# Altium footprint library BIOSENSE_PCB.PcbLib: 36 footprints (part 3 of 3)
Each footprint in its own frame and in the unit in brackets; x right, y up, seen from the top. Pads: shape width x height; smd on the part's side, far side on the other; paste and mask are expansions set on the pad; w line width, h text height; cw(c..) or ccw(c..) is an arc to the next point about the centre after c.
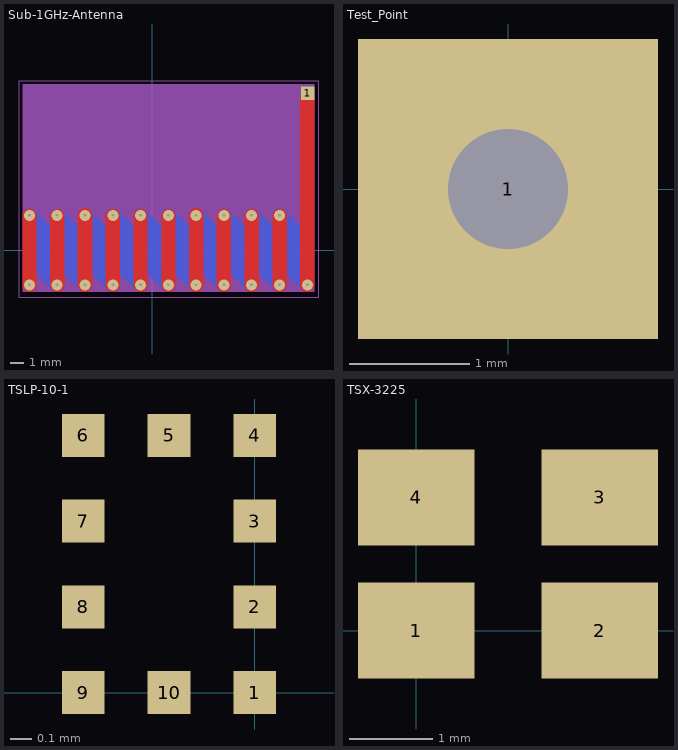
[diagram p2: the footprints below, top view; thin cyan lines are the x and y axes]

## Sub-1GHz-Antenna [mil]
pads (1):
  rect 39x39 smd: 1(440,445)
via 281,99 diameter 31 hole 8
via 360,-98 diameter 31 hole 8
via 281,-98 diameter 31 hole 8
via 203,99 diameter 31 hole 8
via 203,-98 diameter 31 hole 8
via 124,99 diameter 31 hole 8
via 124,-98 diameter 31 hole 8
via 45,99 diameter 31 hole 8
via 45,-98 diameter 31 hole 8
via -34,99 diameter 31 hole 8
via -34,-98 diameter 31 hole 8
via -112,99 diameter 31 hole 8
via -112,-98 diameter 31 hole 8
via -191,99 diameter 31 hole 8
via -191,-98 diameter 31 hole 8
via -270,99 diameter 31 hole 8
via -348,-98 diameter 31 hole 8
via -348,99 diameter 31 hole 8
via -270,-98 diameter 31 hole 8
via 439,-98 diameter 31 hole 8
via 360,99 diameter 31 hole 8
Top Layer:
  region: 341,99 341,-98 341.07,-99.7 341.29,-101.39 341.66,-103.05 342.17,-104.67 342.82,-106.24 343.6,-107.75 344.52,-109.19 345.55,-110.54 346.7,-111.79 347.95,-112.94 349.3,-113.98 350.73,-114.9 352.24,-115.68 353.81,-116.34 355.44,-116.85 357.1,-117.22 358.78,-117.44 360.48,-117.52 362.18,-117.45 363.87,-117.23 365.53,-116.86 367.15,-116.35 368.72,-115.7 370.23,-114.92 371.67,-114 373.02,-112.97 374.28,-111.82 375.43,-110.57 376.46,-109.22 377.38,-107.78 378.17,-106.28 378.82,-104.71 379.33,-103.08 379.7,-101.42 379.92,-99.74 380,-98.04 380,-98 380,99 379.79,100.69 379.43,102.36 378.93,103.99 378.29,105.58 377.51,107.09 376.61,108.54 375.58,109.9 374.43,111.17 373.18,112.33 371.84,113.38 370.4,114.31 368.9,115.11 367.32,115.77 365.7,116.3 364.04,116.68 362.35,116.91 360.64,117 358.94,116.94 357.24,116.73 355.58,116.37 353.94,115.87 352.36,115.23 350.84,114.45 349.4,113.54 348.04,112.51 346.77,111.37 345.61,110.12 344.56,108.78 343.63,107.34 342.83,105.83 342.17,104.26 341.64,102.64 341.26,100.98 341.02,99.29
  region: 262,99 262,-98 262.07,-99.7 262.29,-101.39 262.66,-103.05 263.17,-104.67 263.82,-106.24 264.6,-107.75 265.52,-109.19 266.55,-110.54 267.7,-111.79 268.95,-112.94 270.3,-113.98 271.73,-114.9 273.24,-115.68 274.81,-116.34 276.44,-116.85 278.1,-117.22 279.78,-117.44 281.48,-117.52 283.18,-117.45 284.87,-117.23 286.53,-116.86 288.15,-116.35 289.72,-115.7 291.23,-114.92 292.67,-114 294.02,-112.97 295.28,-111.82 296.43,-110.57 297.46,-109.22 298.38,-107.78 299.17,-106.28 299.82,-104.71 300.33,-103.08 300.7,-101.42 300.92,-99.74 301,-98.04 301,-98 301,99 300.79,100.69 300.43,102.36 299.93,103.99 299.29,105.58 298.51,107.09 297.61,108.54 296.58,109.9 295.43,111.17 294.18,112.33 292.84,113.38 291.4,114.31 289.9,115.11 288.32,115.77 286.7,116.3 285.04,116.68 283.35,116.91 281.64,117 279.94,116.94 278.24,116.73 276.58,116.37 274.94,115.87 273.36,115.23 271.84,114.45 270.4,113.54 269.04,112.51 267.77,111.37 266.61,110.12 265.56,108.78 264.63,107.34 263.83,105.83 263.17,104.26 262.64,102.64 262.26,100.98 262.02,99.29
  region: 183,99 183,-98 183.07,-99.7 183.29,-101.39 183.66,-103.05 184.17,-104.67 184.82,-106.24 185.6,-107.75 186.51,-109.19 187.55,-110.54 188.7,-111.8 189.95,-112.95 191.3,-113.98 192.73,-114.9 194.24,-115.69 195.81,-116.34 197.43,-116.85 199.09,-117.22 200.78,-117.45 202.48,-117.52 204.18,-117.45 205.86,-117.23 207.53,-116.86 209.15,-116.35 210.72,-115.7 212.23,-114.92 213.67,-114.01 215.02,-112.97 216.27,-111.83 217.42,-110.57 218.46,-109.23 219.38,-107.79 220.16,-106.28 220.82,-104.71 221.33,-103.09 221.7,-101.43 221.92,-99.74 222,-98.04 222,-98 222,99 221.79,100.69 221.43,102.36 220.93,103.99 220.29,105.58 219.51,107.09 218.61,108.54 217.58,109.9 216.43,111.17 215.18,112.33 213.84,113.38 212.4,114.31 210.9,115.11 209.32,115.77 207.7,116.3 206.04,116.68 204.35,116.91 202.64,117 200.94,116.94 199.24,116.73 197.57,116.37 195.94,115.87 194.36,115.23 192.84,114.45 191.4,113.54 190.04,112.51 188.77,111.37 187.61,110.12 186.56,108.77 185.63,107.34 184.83,105.83 184.17,104.26 183.64,102.64 183.26,100.97 183.02,99.28
  region: 104,99 104,-98 104.08,-99.74 104.3,-101.47 104.68,-103.18 105.21,-104.84 105.87,-106.45 106.68,-108 107.62,-109.47 108.68,-110.86 109.86,-112.14 111.14,-113.32 112.53,-114.38 114,-115.32 115.55,-116.13 117.16,-116.79 118.82,-117.32 120.53,-117.7 122.26,-117.92 124,-118 125.74,-117.92 127.47,-117.7 129.18,-117.32 130.84,-116.79 132.45,-116.13 134,-115.32 135.47,-114.38 136.86,-113.32 138.14,-112.14 139.32,-110.86 140.38,-109.47 141.32,-108 142.13,-106.45 142.79,-104.84 143.32,-103.18 143.7,-101.47 143.92,-99.74 144,-98 144,99 143.92,100.74 143.7,102.47 143.32,104.18 142.79,105.84 142.13,107.45 141.32,109 140.38,110.47 139.32,111.86 138.14,113.14 136.86,114.32 135.47,115.38 134,116.32 132.45,117.13 130.84,117.79 129.18,118.32 127.47,118.7 125.74,118.92 124,119 122.26,118.92 120.53,118.7 118.82,118.32 117.16,117.79 115.55,117.13 114,116.32 112.53,115.38 111.14,114.32 109.86,113.14 108.68,111.86 107.62,110.47 106.68,109 105.87,107.45 105.21,105.84 104.68,104.18 104.3,102.47 104.08,100.74
  region: 26,99 26,-98 26.07,-99.7 26.29,-101.39 26.66,-103.05 27.17,-104.67 27.82,-106.24 28.6,-107.75 29.51,-109.19 30.55,-110.54 31.7,-111.8 32.95,-112.95 34.3,-113.98 35.73,-114.9 37.24,-115.69 38.81,-116.34 40.43,-116.85 42.09,-117.22 43.78,-117.45 45.48,-117.52 47.18,-117.45 48.86,-117.23 50.53,-116.86 52.15,-116.35 53.72,-115.7 55.23,-114.92 56.67,-114.01 58.02,-112.97 59.27,-111.83 60.42,-110.57 61.46,-109.23 62.38,-107.79 63.16,-106.28 63.82,-104.71 64.33,-103.09 64.7,-101.43 64.92,-99.74 65,-98.04 65,-98 65,99 64.79,100.69 64.43,102.36 63.93,103.99 63.29,105.58 62.51,107.09 61.61,108.54 60.58,109.9 59.43,111.17 58.18,112.33 56.84,113.38 55.4,114.31 53.9,115.11 52.32,115.77 50.7,116.3 49.04,116.68 47.35,116.91 45.64,117 43.94,116.94 42.24,116.73 40.58,116.37 38.94,115.87 37.36,115.23 35.84,114.45 34.4,113.54 33.04,112.51 31.77,111.37 30.61,110.12 29.56,108.77 28.63,107.34 27.83,105.83 27.17,104.26 26.64,102.64 26.26,100.97 26.02,99.28
  region: -53,99 -53,-98 -52.93,-99.7 -52.71,-101.39 -52.34,-103.05 -51.83,-104.67 -51.18,-106.24 -50.4,-107.75 -49.49,-109.19 -48.45,-110.54 -47.3,-111.8 -46.05,-112.95 -44.7,-113.98 -43.27,-114.9 -41.76,-115.69 -40.19,-116.34 -38.57,-116.85 -36.91,-117.22 -35.22,-117.45 -33.52,-117.52 -31.82,-117.45 -30.14,-117.23 -28.47,-116.86 -26.85,-116.35 -25.28,-115.7 -23.77,-114.92 -22.33,-114.01 -20.98,-112.97 -19.73,-111.83 -18.58,-110.57 -17.54,-109.23 -16.62,-107.79 -15.84,-106.28 -15.18,-104.71 -14.67,-103.09 -14.3,-101.43 -14.08,-99.74 -14,-98.04 -14,-98 -14,99 -14.21,100.69 -14.57,102.36 -15.07,103.99 -15.71,105.58 -16.49,107.09 -17.39,108.54 -18.42,109.9 -19.57,111.17 -20.82,112.33 -22.16,113.38 -23.6,114.31 -25.1,115.11 -26.68,115.77 -28.3,116.3 -29.96,116.68 -31.65,116.91 -33.36,117 -35.06,116.94 -36.76,116.73 -38.42,116.37 -40.06,115.87 -41.64,115.23 -43.16,114.45 -44.6,113.54 -45.96,112.51 -47.23,111.37 -48.39,110.12 -49.44,108.77 -50.37,107.34 -51.17,105.83 -51.83,104.26 -52.36,102.64 -52.74,100.97 -52.98,99.28
  region: -132,99 -132,-98 -131.93,-99.7 -131.71,-101.39 -131.34,-103.05 -130.83,-104.67 -130.18,-106.24 -129.4,-107.75 -128.49,-109.19 -127.45,-110.54 -126.3,-111.8 -125.05,-112.95 -123.7,-113.98 -122.27,-114.9 -120.76,-115.69 -119.19,-116.34 -117.57,-116.85 -115.91,-117.22 -114.22,-117.45 -112.52,-117.52 -110.82,-117.45 -109.14,-117.23 -107.47,-116.86 -105.85,-116.35 -104.28,-115.7 -102.77,-114.92 -101.33,-114.01 -99.98,-112.97 -98.73,-111.83 -97.58,-110.57 -96.54,-109.23 -95.62,-107.79 -94.84,-106.28 -94.18,-104.71 -93.67,-103.09 -93.3,-101.43 -93.08,-99.74 -93,-98.04 -93,-98 -93,99 -93.21,100.69 -93.57,102.36 -94.07,103.99 -94.71,105.58 -95.49,107.09 -96.39,108.54 -97.42,109.9 -98.57,111.17 -99.82,112.33 -101.16,113.38 -102.6,114.31 -104.1,115.11 -105.68,115.77 -107.3,116.3 -108.96,116.68 -110.65,116.91 -112.36,117 -114.06,116.94 -115.76,116.73 -117.42,116.37 -119.06,115.87 -120.64,115.23 -122.16,114.45 -123.6,113.54 -124.96,112.51 -126.23,111.37 -127.39,110.12 -128.44,108.77 -129.37,107.34 -130.17,105.83 -130.83,104.26 -131.36,102.64 -131.74,100.97 -131.98,99.28
  region: -289,99 -289,-98 -288.93,-99.7 -288.71,-101.39 -288.34,-103.05 -287.83,-104.67 -287.18,-106.24 -286.4,-107.75 -285.49,-109.19 -284.45,-110.54 -283.3,-111.8 -282.05,-112.95 -280.7,-113.98 -279.27,-114.9 -277.76,-115.69 -276.19,-116.34 -274.57,-116.85 -272.91,-117.22 -271.22,-117.45 -269.52,-117.52 -267.82,-117.45 -266.14,-117.23 -264.47,-116.86 -262.85,-116.35 -261.28,-115.7 -259.77,-114.92 -258.33,-114.01 -256.98,-112.97 -255.73,-111.83 -254.58,-110.57 -253.54,-109.23 -252.62,-107.79 -251.84,-106.28 -251.18,-104.71 -250.67,-103.09 -250.3,-101.43 -250.08,-99.74 -250,-98.04 -250,-98 -250,99 -250.21,100.69 -250.57,102.36 -251.07,103.99 -251.71,105.58 -252.49,107.09 -253.39,108.54 -254.42,109.9 -255.57,111.17 -256.82,112.33 -258.16,113.38 -259.6,114.31 -261.1,115.11 -262.68,115.77 -264.3,116.3 -265.96,116.68 -267.65,116.91 -269.36,117 -271.06,116.94 -272.76,116.73 -274.43,116.37 -276.06,115.87 -277.64,115.23 -279.16,114.45 -280.6,113.54 -281.96,112.51 -283.23,111.37 -284.39,110.12 -285.44,108.77 -286.37,107.34 -287.17,105.83 -287.83,104.26 -288.36,102.64 -288.74,100.97 -288.98,99.28
  region: -211,99 -211,-98 -210.92,-99.74 -210.7,-101.47 -210.32,-103.18 -209.79,-104.84 -209.13,-106.45 -208.32,-108 -207.38,-109.47 -206.32,-110.86 -205.14,-112.14 -203.86,-113.32 -202.47,-114.38 -201,-115.32 -199.45,-116.13 -197.84,-116.79 -196.18,-117.32 -194.47,-117.7 -192.74,-117.92 -191,-118 -189.26,-117.92 -187.53,-117.7 -185.82,-117.32 -184.16,-116.79 -182.55,-116.13 -181,-115.32 -179.53,-114.38 -178.14,-113.32 -176.86,-112.14 -175.68,-110.86 -174.62,-109.47 -173.68,-108 -172.87,-106.45 -172.21,-104.84 -171.68,-103.18 -171.3,-101.47 -171.08,-99.74 -171,-98 -171,99 -171.08,100.74 -171.3,102.47 -171.68,104.18 -172.21,105.84 -172.87,107.45 -173.68,109 -174.62,110.47 -175.68,111.86 -176.86,113.14 -178.14,114.32 -179.53,115.38 -181,116.32 -182.55,117.13 -184.16,117.79 -185.82,118.32 -187.53,118.7 -189.26,118.92 -191,119 -192.74,118.92 -194.47,118.7 -196.18,118.32 -197.84,117.79 -199.45,117.13 -201,116.32 -202.47,115.38 -203.86,114.32 -205.14,113.14 -206.32,111.86 -207.38,110.47 -208.32,109 -209.13,107.45 -209.79,105.84 -210.32,104.18 -210.7,102.47 -210.92,100.74
  region: -368,99 -368,-98 -367.93,-99.7 -367.71,-101.39 -367.34,-103.05 -366.83,-104.67 -366.18,-106.24 -365.4,-107.75 -364.49,-109.19 -363.45,-110.54 -362.3,-111.8 -361.05,-112.95 -359.7,-113.98 -358.27,-114.9 -356.76,-115.69 -355.19,-116.34 -353.57,-116.85 -351.91,-117.22 -350.22,-117.45 -348.52,-117.52 -346.82,-117.45 -345.14,-117.23 -343.47,-116.86 -341.85,-116.35 -340.28,-115.7 -338.77,-114.92 -337.33,-114.01 -335.98,-112.97 -334.73,-111.83 -333.58,-110.57 -332.54,-109.23 -331.62,-107.79 -330.84,-106.28 -330.18,-104.71 -329.67,-103.09 -329.3,-101.43 -329.08,-99.74 -329,-98.04 -329,-98 -329,99 -329.21,100.69 -329.57,102.36 -330.07,103.99 -330.71,105.58 -331.49,107.09 -332.39,108.54 -333.42,109.9 -334.57,111.17 -335.82,112.33 -337.16,113.38 -338.6,114.31 -340.1,115.11 -341.68,115.77 -343.3,116.3 -344.96,116.68 -346.65,116.91 -348.36,117 -350.06,116.94 -351.76,116.73 -353.43,116.37 -355.06,115.87 -356.64,115.23 -358.16,114.45 -359.6,113.54 -360.96,112.51 -362.23,111.37 -363.39,110.12 -364.44,108.77 -365.37,107.34 -366.17,105.83 -366.83,104.26 -367.36,102.64 -367.74,100.97 -367.98,99.28
  region: 459,-98 459,430 440.74,430 419,430 419,-98 419.08,-99.74 419.3,-101.47 419.68,-103.18 420.21,-104.84 420.87,-106.45 421.68,-108 422.62,-109.47 423.68,-110.86 424.86,-112.14 426.14,-113.32 427.53,-114.38 429,-115.32 430.55,-116.13 432.16,-116.79 433.82,-117.32 435.53,-117.7 437.26,-117.92 439,-118 440.74,-117.92 442.47,-117.7 444.18,-117.32 445.84,-116.79 447.45,-116.13 449,-115.32 450.47,-114.38 451.86,-113.32 453.14,-112.14 454.32,-110.86 455.38,-109.47 456.32,-108 457.13,-106.45 457.79,-104.84 458.32,-103.18 458.7,-101.47 458.92,-99.74
Bottom Layer:
  region: 374,-84 375.17,-85.27 376.22,-86.64 377.15,-88.1 377.94,-89.63 378.61,-91.23 379.12,-92.88 379.5,-94.56 379.72,-96.27 379.8,-98 379.72,-99.73 379.5,-101.44 379.12,-103.12 378.61,-104.77 377.94,-106.37 377.15,-107.9 376.22,-109.36 375.17,-110.73 374,-112 372.73,-113.17 371.36,-114.22 369.9,-115.15 368.37,-115.94 366.77,-116.61 365.12,-117.12 363.44,-117.5 361.73,-117.72 360,-117.8 358.27,-117.72 356.56,-117.5 354.88,-117.12 353.23,-116.61 351.63,-115.94 350.1,-115.15 348.64,-114.22 347.27,-113.17 346,-112 306,-72 304.91,-70.68 303.95,-69.26 303.1,-67.77 302.4,-66.21 301.83,-64.6 301.4,-62.94 301.12,-61.25 300.99,-59.54 301,-58 301,52 268,85 266.84,86.24 265.79,87.57 264.86,88.99 264.06,90.49 263.4,92.05 262.87,93.66 262.48,95.31 262.24,96.99 262.15,98.69 262.21,100.38 262.41,102.07 262.76,103.73 263.25,105.35 263.88,106.93 264.65,108.44 265.54,109.88 266.56,111.24 267.69,112.5 268.93,113.66 270.27,114.71 271.69,115.64 273.18,116.44 274.74,117.11 276.35,117.63 278.01,118.02 279.69,118.26 281.38,118.35 283.08,118.3 284.76,118.1 286.42,117.75 288.05,117.25 289.62,116.62 291.13,115.86 292.57,114.96 293.93,113.94 295,113 334,74 335.18,72.75 336.25,71.41 337.19,69.98 338.01,68.47 338.7,66.9 339.24,65.27 339.64,63.6 339.89,61.91 340,60.19 340,60 340,-50
  region: 295,-84 296.17,-85.23 297.23,-86.56 298.16,-87.97 298.98,-89.46 299.65,-91.02 300.19,-92.62 300.59,-94.27 300.84,-95.95 300.95,-97.64 300.91,-99.34 300.72,-101.03 300.38,-102.69 299.9,-104.32 299.28,-105.9 298.52,-107.42 297.64,-108.86 296.63,-110.23 295.51,-111.5 294.28,-112.67 292.95,-113.73 291.54,-114.66 290.05,-115.48 288.49,-116.15 286.88,-116.69 285.23,-117.09 283.56,-117.34 281.86,-117.45 280.17,-117.41 278.48,-117.22 276.82,-116.88 275.19,-116.4 273.61,-115.78 272.09,-115.02 270.64,-114.14 269.28,-113.13 268.01,-112.01 268,-112 228,-72 226.82,-70.76 225.76,-69.43 224.81,-68.01 224,-66.51 223.31,-64.95 222.77,-63.33 222.37,-61.67 222.11,-59.98 222,-58.28 222,-58 222,52 189,85 187.83,86.27 186.78,87.64 185.85,89.1 185.06,90.63 184.4,92.23 183.88,93.88 183.5,95.56 183.28,97.27 183.2,99 183.28,100.73 183.5,102.44 183.88,104.12 184.4,105.77 185.06,107.37 185.85,108.9 186.78,110.36 187.83,111.73 189,113 190.27,114.17 191.64,115.22 193.1,116.15 194.63,116.94 196.23,117.61 197.88,118.12 199.56,118.5 201.27,118.72 203,118.8 204.73,118.72 206.44,118.5 208.12,118.12 209.77,117.61 211.37,116.94 212.9,116.15 214.36,115.22 215.73,114.17 217,113 256,74 257.09,72.67 258.06,71.25 258.9,69.74 259.61,68.17 260.18,66.55 260.6,64.88 260.88,63.18 261.01,61.47 261,60 261,-50
  region: 217,-84 218.17,-85.27 219.22,-86.64 220.15,-88.1 220.94,-89.63 221.6,-91.23 222.12,-92.88 222.5,-94.56 222.72,-96.27 222.8,-98 222.72,-99.73 222.5,-101.44 222.12,-103.12 221.6,-104.77 220.94,-106.37 220.15,-107.9 219.22,-109.36 218.17,-110.73 217,-112 215.73,-113.17 214.36,-114.22 212.9,-115.15 211.37,-115.94 209.77,-116.61 208.12,-117.12 206.44,-117.5 204.73,-117.72 203,-117.8 201.27,-117.72 199.56,-117.5 197.88,-117.12 196.23,-116.61 194.63,-115.94 193.1,-115.15 191.64,-114.22 190.27,-113.17 189,-112 149,-72 147.82,-70.75 146.75,-69.41 145.8,-67.98 144.99,-66.47 144.3,-64.89 143.76,-63.26 143.36,-61.59 143.11,-59.9 143,-58.18 143,-58 143,52 110,85 108.83,86.27 107.78,87.64 106.85,89.1 106.06,90.63 105.39,92.23 104.88,93.88 104.5,95.56 104.28,97.27 104.2,99 104.28,100.73 104.5,102.44 104.88,104.12 105.39,105.77 106.06,107.37 106.85,108.9 107.78,110.36 108.83,111.73 110,113 111.27,114.17 112.64,115.22 114.1,116.15 115.63,116.94 117.23,117.61 118.88,118.12 120.56,118.5 122.27,118.72 124,118.8 125.73,118.72 127.44,118.5 129.12,118.12 130.77,117.61 132.37,116.94 133.9,116.15 135.36,115.22 136.73,114.17 138,113 177,74 178.09,72.68 179.05,71.27 179.89,69.78 180.6,68.22 181.17,66.6 181.6,64.94 181.88,63.26 182.01,61.55 182,60 182,-50
  region: 138,-84 139.17,-85.27 140.22,-86.64 141.15,-88.1 141.94,-89.63 142.6,-91.23 143.12,-92.88 143.5,-94.56 143.72,-96.27 143.8,-98 143.72,-99.73 143.5,-101.44 143.12,-103.12 142.6,-104.77 141.94,-106.37 141.15,-107.9 140.22,-109.36 139.17,-110.73 138,-112 136.73,-113.17 135.36,-114.22 133.9,-115.15 132.37,-115.94 130.77,-116.61 129.12,-117.12 127.44,-117.5 125.73,-117.72 124,-117.8 122.27,-117.72 120.56,-117.5 118.88,-117.12 117.23,-116.61 115.63,-115.94 114.1,-115.15 112.64,-114.22 111.27,-113.17 110,-112 70,-72 68.81,-70.74 67.74,-69.38 66.79,-67.93 65.97,-66.41 65.29,-64.81 64.74,-63.17 64.35,-61.48 64.1,-59.77 64,-58.04 64,-58 64,52 31,85 29.83,86.27 28.78,87.64 27.85,89.1 27.06,90.63 26.39,92.23 25.88,93.88 25.5,95.56 25.28,97.27 25.2,99 25.28,100.73 25.5,102.44 25.88,104.12 26.39,105.77 27.06,107.37 27.85,108.9 28.78,110.36 29.83,111.73 31,113 32.27,114.17 33.64,115.22 35.1,116.15 36.63,116.94 38.23,117.61 39.88,118.12 41.56,118.5 43.27,118.72 45,118.8 46.73,118.72 48.44,118.5 50.12,118.12 51.77,117.61 53.37,116.94 54.9,116.15 56.36,115.22 57.73,114.17 59,113 98,74 99.18,72.74 100.25,71.39 101.2,69.95 102.02,68.43 102.71,66.85 103.25,65.21 103.65,63.53 103.9,61.82 104,60.1 104,60 104,-50
  region: 59,-84 60.17,-85.27 61.22,-86.64 62.15,-88.1 62.94,-89.63 63.6,-91.23 64.12,-92.88 64.5,-94.56 64.72,-96.27 64.8,-98 64.72,-99.73 64.5,-101.44 64.12,-103.12 63.6,-104.77 62.94,-106.37 62.15,-107.9 61.22,-109.36 60.17,-110.73 59,-112 57.73,-113.17 56.36,-114.22 54.9,-115.15 53.37,-115.94 51.77,-116.61 50.12,-117.12 48.44,-117.5 46.73,-117.72 45,-117.8 43.27,-117.72 41.56,-117.5 39.88,-117.12 38.23,-116.61 36.63,-115.94 35.1,-115.15 33.64,-114.22 32.27,-113.17 31,-112 -9,-72 -10.09,-70.67 -11.06,-69.25 -11.9,-67.76 -12.61,-66.19 -13.18,-64.57 -13.6,-62.91 -13.88,-61.21 -14.01,-59.5 -14,-58 -14,52 -47,85 -48.17,86.27 -49.22,87.64 -50.15,89.1 -50.94,90.63 -51.6,92.23 -52.12,93.88 -52.5,95.56 -52.72,97.27 -52.8,99 -52.72,100.73 -52.5,102.44 -52.12,104.12 -51.6,105.77 -50.94,107.37 -50.15,108.9 -49.22,110.36 -48.17,111.73 -47,113 -45.73,114.17 -44.36,115.22 -42.9,116.15 -41.37,116.94 -39.77,117.61 -38.12,118.12 -36.44,118.5 -34.73,118.72 -33,118.8 -31.27,118.72 -29.56,118.5 -27.88,118.12 -26.23,117.61 -24.63,116.94 -23.1,116.15 -21.64,115.22 -20.27,114.17 -19,113 19,74 20.18,72.76 21.25,71.42 22.19,70 23.01,68.49 23.69,66.92 24.24,65.3 24.64,63.64 24.89,61.95 25,60.24 25,60 25,-50
  region: -20,-84 -18.83,-85.23 -17.77,-86.56 -16.84,-87.97 -16.02,-89.46 -15.35,-91.02 -14.81,-92.62 -14.41,-94.27 -14.16,-95.95 -14.05,-97.64 -14.09,-99.34 -14.28,-101.03 -14.62,-102.69 -15.1,-104.32 -15.72,-105.9 -16.48,-107.42 -17.36,-108.86 -18.37,-110.23 -19.49,-111.5 -20.72,-112.67 -22.05,-113.73 -23.46,-114.66 -24.95,-115.48 -26.51,-116.15 -28.12,-116.69 -29.77,-117.09 -31.44,-117.34 -33.14,-117.45 -34.83,-117.41 -36.52,-117.22 -38.18,-116.88 -39.81,-116.4 -41.39,-115.78 -42.91,-115.02 -44.36,-114.14 -45.72,-113.13 -46.99,-112.01 -47,-112 -87,-72 -88.18,-70.76 -89.24,-69.43 -90.19,-68.01 -91,-66.51 -91.69,-64.95 -92.23,-63.33 -92.63,-61.67 -92.89,-59.98 -93,-58.28 -93,-58 -93,52 -126,85 -127.17,86.27 -128.22,87.64 -129.15,89.1 -129.94,90.63 -130.6,92.23 -131.12,93.88 -131.5,95.56 -131.72,97.27 -131.8,99 -131.72,100.73 -131.5,102.44 -131.12,104.12 -130.6,105.77 -129.94,107.37 -129.15,108.9 -128.22,110.36 -127.17,111.73 -126,113 -124.73,114.17 -123.36,115.22 -121.9,116.15 -120.37,116.94 -118.77,117.61 -117.12,118.12 -115.44,118.5 -113.73,118.72 -112,118.8 -110.27,118.72 -108.56,118.5 -106.88,118.12 -105.23,117.61 -103.63,116.94 -102.1,116.15 -100.64,115.22 -99.27,114.17 -98,113 -59,74 -57.91,72.67 -56.94,71.25 -56.1,69.74 -55.39,68.17 -54.82,66.55 -54.4,64.88 -54.12,63.18 -53.99,61.47 -54,60 -54,-50
  region: -98,-84 -96.83,-85.27 -95.78,-86.64 -94.85,-88.1 -94.06,-89.63 -93.39,-91.23 -92.88,-92.88 -92.5,-94.56 -92.28,-96.27 -92.2,-98 -92.28,-99.73 -92.5,-101.44 -92.88,-103.12 -93.39,-104.77 -94.06,-106.37 -94.85,-107.9 -95.78,-109.36 -96.83,-110.73 -98,-112 -99.27,-113.17 -100.64,-114.22 -102.1,-115.15 -103.63,-115.94 -105.23,-116.61 -106.88,-117.12 -108.56,-117.5 -110.27,-117.72 -112,-117.8 -113.73,-117.72 -115.44,-117.5 -117.12,-117.12 -118.77,-116.61 -120.37,-115.94 -121.9,-115.15 -123.36,-114.22 -124.73,-113.17 -126,-112 -166,-72 -167.18,-70.75 -168.25,-69.4 -169.2,-67.96 -170.02,-66.45 -170.7,-64.87 -171.25,-63.23 -171.65,-61.56 -171.9,-59.85 -172,-58.14 -172,-58 -172,52 -205,85 -206.17,86.27 -207.22,87.64 -208.15,89.1 -208.94,90.63 -209.6,92.23 -210.12,93.88 -210.5,95.56 -210.72,97.27 -210.8,99 -210.72,100.73 -210.5,102.44 -210.12,104.12 -209.6,105.77 -208.94,107.37 -208.15,108.9 -207.22,110.36 -206.17,111.73 -205,113 -203.73,114.17 -202.36,115.22 -200.9,116.15 -199.37,116.94 -197.77,117.61 -196.12,118.12 -194.44,118.5 -192.73,118.72 -191,118.8 -189.27,118.72 -187.56,118.5 -185.88,118.12 -184.23,117.61 -182.63,116.94 -181.1,116.15 -179.64,115.22 -178.27,114.17 -177,113 -138,74 -136.81,72.73 -135.74,71.37 -134.79,69.92 -133.97,68.39 -133.28,66.79 -132.74,65.15 -132.34,63.46 -132.1,61.74 -132,60 -132,-50
  region: -177,-84 -175.83,-85.27 -174.78,-86.64 -173.85,-88.1 -173.06,-89.63 -172.4,-91.23 -171.88,-92.88 -171.5,-94.56 -171.28,-96.27 -171.2,-98 -171.28,-99.73 -171.5,-101.44 -171.88,-103.12 -172.4,-104.77 -173.06,-106.37 -173.85,-107.9 -174.78,-109.36 -175.83,-110.73 -177,-112 -178.27,-113.17 -179.64,-114.22 -181.1,-115.15 -182.63,-115.94 -184.23,-116.61 -185.88,-117.12 -187.56,-117.5 -189.27,-117.72 -191,-117.8 -192.73,-117.72 -194.44,-117.5 -196.12,-117.12 -197.77,-116.61 -199.37,-115.94 -200.9,-115.15 -202.36,-114.22 -203.73,-113.17 -205,-112 -245,-72 -246.19,-70.74 -247.26,-69.38 -248.21,-67.93 -249.03,-66.41 -249.71,-64.81 -250.26,-63.17 -250.65,-61.48 -250.9,-59.77 -251,-58.04 -251,-58 -251,52 -284,85 -285.17,86.27 -286.22,87.64 -287.15,89.1 -287.94,90.63 -288.61,92.23 -289.12,93.88 -289.5,95.56 -289.72,97.27 -289.8,99 -289.72,100.73 -289.5,102.44 -289.12,104.12 -288.61,105.77 -287.94,107.37 -287.15,108.9 -286.22,110.36 -285.17,111.73 -284,113 -282.73,114.17 -281.36,115.22 -279.9,116.15 -278.37,116.94 -276.77,117.61 -275.12,118.12 -273.44,118.5 -271.73,118.72 -270,118.8 -268.27,118.72 -266.56,118.5 -264.88,118.12 -263.23,117.61 -261.63,116.94 -260.1,116.15 -258.64,115.22 -257.27,114.17 -256,113 -217,74 -215.82,72.74 -214.75,71.39 -213.8,69.95 -212.98,68.43 -212.29,66.85 -211.75,65.21 -211.35,63.53 -211.1,61.82 -211,60.1 -211,60 -211,-50
  region: -256,-84 -254.83,-85.27 -253.78,-86.64 -252.85,-88.1 -252.06,-89.63 -251.4,-91.23 -250.88,-92.88 -250.5,-94.56 -250.28,-96.27 -250.2,-98 -250.28,-99.73 -250.5,-101.44 -250.88,-103.12 -251.4,-104.77 -252.06,-106.37 -252.85,-107.9 -253.78,-109.36 -254.83,-110.73 -256,-112 -257.27,-113.17 -258.64,-114.22 -260.1,-115.15 -261.63,-115.94 -263.23,-116.61 -264.88,-117.12 -266.56,-117.5 -268.27,-117.72 -270,-117.8 -271.73,-117.72 -273.44,-117.5 -275.12,-117.12 -276.77,-116.61 -278.37,-115.94 -279.9,-115.15 -281.36,-114.22 -282.73,-113.17 -284,-112 -324,-72 -325.09,-70.67 -326.06,-69.26 -326.9,-67.76 -327.61,-66.2 -328.17,-64.58 -328.6,-62.92 -328.88,-61.23 -329.01,-59.51 -329,-58 -329,52 -362,85 -363.16,86.24 -364.2,87.58 -365.13,89 -365.92,90.5 -366.58,92.06 -367.11,93.68 -367.49,95.33 -367.73,97.01 -367.81,98.7 -367.75,100.4 -367.55,102.08 -367.19,103.74 -366.7,105.37 -366.06,106.94 -365.29,108.45 -364.39,109.89 -363.37,111.24 -362.24,112.5 -360.99,113.66 -359.66,114.71 -358.23,115.63 -356.74,116.43 -355.17,117.09 -353.56,117.61 -351.91,117.99 -350.23,118.23 -348.53,118.32 -346.84,118.26 -345.15,118.05 -343.49,117.7 -341.87,117.2 -340.3,116.57 -338.78,115.8 -337.35,114.9 -335.99,113.88 -335,113 -296,74 -294.82,72.76 -293.75,71.42 -292.81,69.99 -291.99,68.48 -291.31,66.91 -290.76,65.29 -290.36,63.62 -290.11,61.93 -290,60.22 -290,60 -290,-50
  region: 453,-84 454.17,-85.27 455.22,-86.64 456.15,-88.1 456.94,-89.63 457.61,-91.23 458.12,-92.88 458.5,-94.56 458.72,-96.27 458.8,-98 458.72,-99.73 458.5,-101.44 458.12,-103.12 457.61,-104.77 456.94,-106.37 456.15,-107.9 455.22,-109.36 454.17,-110.73 453,-112 451.73,-113.17 450.36,-114.22 448.9,-115.15 447.37,-115.94 445.77,-116.61 444.12,-117.12 442.44,-117.5 440.73,-117.72 439,-117.8 437.27,-117.72 435.56,-117.5 433.88,-117.12 432.23,-116.61 430.63,-115.94 429.1,-115.15 427.64,-114.22 426.27,-113.17 425,-112 385,-72 383.82,-70.75 382.75,-69.39 381.8,-67.95 380.98,-66.43 380.29,-64.85 379.75,-63.21 379.35,-61.53 379.1,-59.83 379,-58.11 379,-58 379,52 346,85 344.83,86.27 343.78,87.64 342.85,89.1 342.06,90.63 341.39,92.23 340.88,93.88 340.5,95.56 340.28,97.27 340.2,99 340.28,100.73 340.5,102.44 340.88,104.12 341.39,105.77 342.06,107.37 342.85,108.9 343.78,110.36 344.83,111.73 346,113 347.27,114.17 348.64,115.22 350.1,116.15 351.63,116.94 353.23,117.61 354.88,118.12 356.56,118.5 358.27,118.72 360,118.8 361.73,118.72 363.44,118.5 365.12,118.12 366.77,117.61 368.37,116.94 369.9,116.15 371.36,115.22 372.73,114.17 374,113 413,74 414.19,72.74 415.26,71.38 416.21,69.93 417.03,68.41 417.71,66.82 418.25,65.18 418.65,63.49 418.9,61.78 419,60.05 419,60 419,-50
Mechanical 17:
  lines w1: -358,-98 -339,-98 ; -358,99 -339,99 ; -348,-108 -348,-88 ; -348,89 -348,109 ; -280,-98 -260,-98 ; -280,99 -260,99 ; -270,-108 -270,-88 ; -270,89 -270,109 ; -201,-98 -181,-98 ; -201,99 -181,99 ; -191,-108 -191,-88 ; -191,89 -191,109 ; -122,-98 -102,-98 ; -122,99 -102,99 ; -112,-108 -112,-88 ; -112,89 -112,109 ; -43,-98 -24,-98 ; -43,99 -24,99 ; -34,-108 -34,-88 ; -34,89 -34,109 ; 35,-98 55,-98 ; 35,99 55,99 ; 45,-108 45,-88 ; 45,89 45,109 ; 114,-98 134,-98 ; 114,99 134,99 ; 124,-108 124,-88 ; 124,89 124,109 ; 193,-98 213,-98 ; 193,99 213,99 ; 203,-108 203,-88 ; 203,89 203,109 ; 272,-98 291,-98 ; 272,99 291,99 ; 281,-108 281,-88 ; 281,89 281,109 ; 350,-98 370,-98 ; 350,99 370,99 ; 360,-108 360,-88 ; 360,89 360,109 ; 429,-98 449,-98 ; 439,-108 439,-88
Mechanical 18:
  text "#PN" at 140,19 h8
  text "Antenna PCB helix 868/915MHz" at 140,33 h8
Mechanical 20:
  text "1" at 435.8,450 h8
Mechanical 23:
  drawing of 10 lines, arcs and shapes, not listed
Mechanical 29:
  lines w1: -378,-133 -378,480 472,480 472,-133 -378,-133
Mechanical 30:
  drawing of 11 lines, arcs and shapes, not listed
Mechanical 31:
  pour cut-out: 459,470 -368,470 -368,-118 459,-118
3D body: height 150, standoff 0, extent 341,-117.52 380,117
3D body: height 150, standoff 0, extent 262,-117.52 301,117
3D body: height 150, standoff 0, extent 183,-117.52 222,117
3D body: height 150, standoff 0, extent 104,-118 144,119
3D body: height 150, standoff 0, extent 26,-117.52 65,117
3D body: height 150, standoff 0, extent -53,-117.52 -14,117
3D body: height 150, standoff 0, extent -132,-117.52 -93,117
3D body: height 150, standoff 0, extent -211,-118 -171,119
3D body: height 150, standoff 0, extent -289,-117.52 -250,117
3D body: height 150, standoff 0, extent 340.2,-117.8 458.8,118.8
3D body: height 150, standoff 0, extent 262.15,-117.8 379.8,118.35
3D body: height 150, standoff 0, extent 183.2,-117.45 300.95,118.8
3D body: height 150, standoff 0, extent 104.2,-117.8 222.8,118.8
3D body: height 150, standoff 0, extent 25.2,-117.8 143.8,118.8
3D body: height 150, standoff 0, extent -52.8,-117.8 64.8,118.8
3D body: height 150, standoff 0, extent -131.8,-117.45 -14.05,118.8
3D body: height 150, standoff 0, extent -210.8,-117.8 -92.2,118.8
3D body: height 150, standoff 0, extent -289.8,-117.8 -171.2,118.8
3D body: height 150, standoff 0, extent 419,-118 459,430
3D body: height 150, standoff 0, extent -368,-117.52 -329,117
3D body: height 150, standoff 0, extent -367.81,-117.8 -250.2,118.32

## Test_Point [mm]
pads (1):
  rect 2.5x2.5 hole 1: 1(0,0)

## TSLP-10-1 [mm]
pads (10):
  rect 0.2x0.2 smd mask+0.06: 1(0,0) 2(0,0.4) 3(0,0.8) 4(0,1.2) 5(-0.4,1.2) 6(-0.8,1.2) 7(-0.8,0.8) 8(-0.8,0.4) 9(-0.8,0) 10(-0.4,0)

## TSX-3225 [mm]
pads (4):
  rect 1.4x1.15 smd: 1(0,0) 2(2.2,0) 3(2.2,1.6) 4(0,1.6)